# EAGLE library part AD8422BRMZ-RL (library AD8422BRMZ-RL)
INSTRUMENT AMP, 2.2MHZ, 80DB, 8 MSOP; No. of Amplifiers: 1; Input Offset Voltage: Check availability <https://pricing.snapeda.com/parts/AD8422BRMZ-RL/Analog%20Devices/view-part?ref=eda>
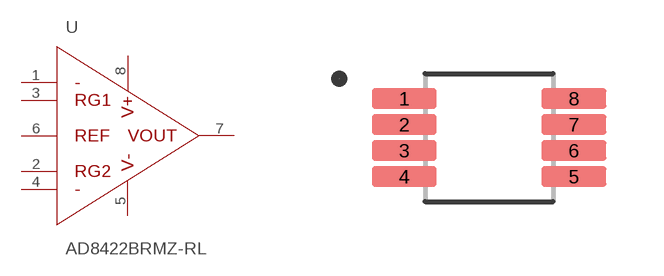
[diagram p0: symbol with the pads of SOP65P490X110-8N; footprint SOP65P490X110-8N]

Designator prefix U

## AD8422BRMZ-RL (AVAILABILITY: In Stock; CHECK_PRICES: https://www.snapeda.com/parts/AD8422BRMZ-RL/Analog+Devices/view-part/?ref=eda; DESCRIPTION: High Performance, Low Power, Rail-to-Rail Precision Instrumentation Amplifier; MF: Analog Devices; MP: AD8422BRMZ-RL; PACKAGE: MSOP-8 Analog Devices; PRICE: None; PURCHASE-URL: https://www.snapeda.com/api/url_track_click_mouser/?unipart_id=972475&manufacturer=Analog Devices&part_name=AD8422BRMZ-RL&search_term=ad8422; SNAPEDA_LINK: https://www.snapeda.com/parts/AD8422BRMZ-RL/Analog+Devices/view-part/?ref=snap)  [SOP65P490X110-8N]
1  -IN  in
2  RG_1  pas
3  RG_2  pas
4  +IN  in
5  VS-  pwr
6  REF  in
7  VOUT  out
8  VS+  pwr

## Footprint SOP65P490X110-8N (pad centres in mm)
smd 1.62 x 0.5: 1 -2.12,0.975; 2 -2.12,0.325; 3 -2.12,-0.325; 4 -2.12,-0.975; 5 2.12,-0.975; 6 2.12,-0.325; 7 2.12,0.325; 8 2.12,0.975